# Altium footprint library L-SPE-WURTH_TPC.PcbLib: 1 footprints
Each footprint in its own frame and in the unit in brackets; x right, y up, seen from the top. Pads: shape width x height; smd on the part's side, far side on the other; paste and mask are expansions set on the pad; w line width, h text height; cw(c..) or ccw(c..) is an arc to the next point about the centre after c.
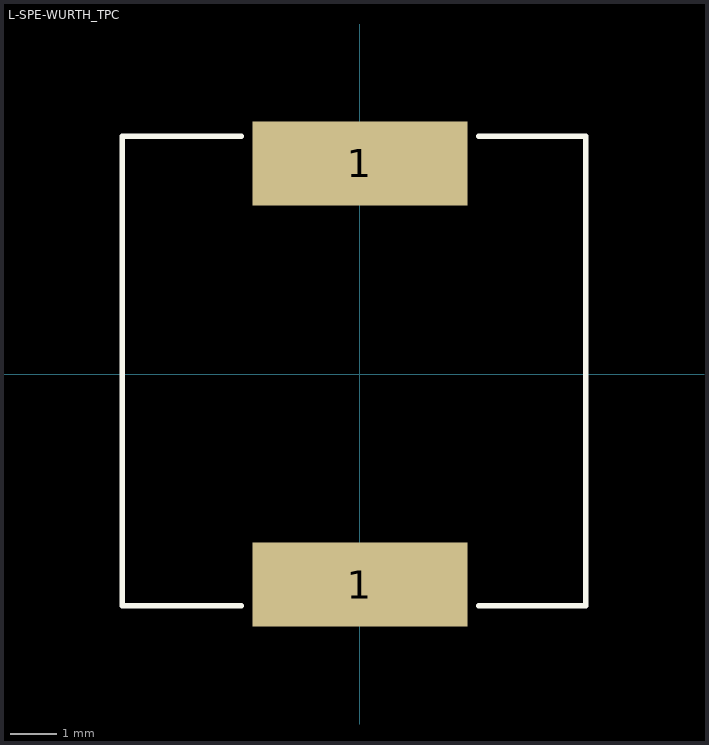
[diagram p0: the footprint, top view; thin cyan lines are the x and y axes]

## L-SPE-WURTH_TPC [mm] "WURTH TPC inductor"
pads (2):
  rect 4.6x1.8 smd: 1(0,-4.5) 1(0,4.5)
Top Overlay:
  lines w0.12: -2.54,-4.953 -5.08,-4.953 -5.08,5.08 -2.54,5.08 ; 2.54,-4.953 4.826,-4.953 4.826,5.08 2.54,5.08
3D body: height 3.81, standoff 0, extent -5.127,-4.945 4.873,5.055